# Altium footprint library RGT_TI.PcbLib: 1 footprints
Each footprint in its own frame and in the unit in brackets; x right, y up, seen from the top. Pads: shape width x height; smd on the part's side, far side on the other; paste and mask are expansions set on the pad; w line width, h text height; cw(c..) or ccw(c..) is an arc to the next point about the centre after c.
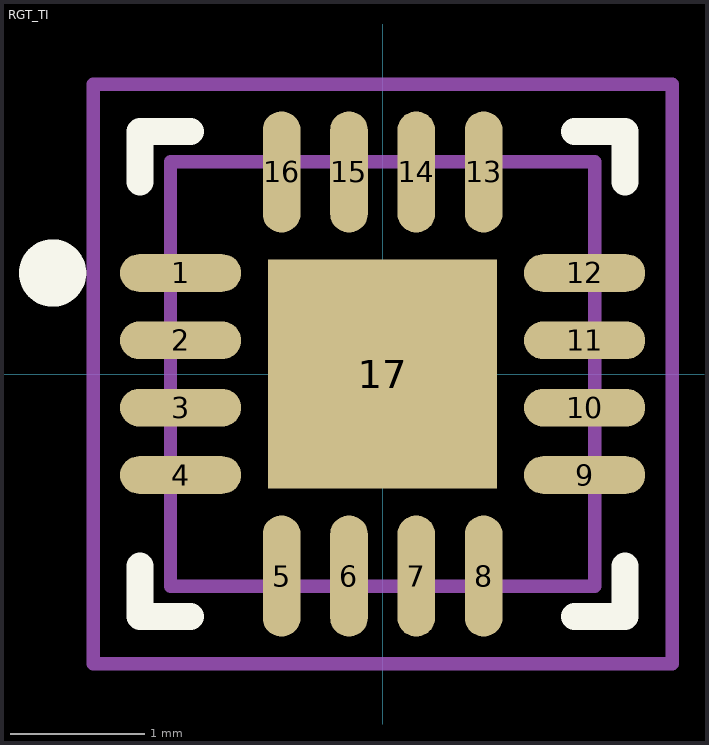
[diagram p0: the footprint, top view; thin cyan lines are the x and y axes]

## RGT_TI [mm] "QFN, 16-Leads, Body 3.2x3.2mm (max), Pitch 0.50mm, IPC Medium Density"
height 1
pads (17):
  oval 0.9x0.28 smd mask+0.07: 1(-1.5,0.75) 2(-1.5,0.25) 3(-1.5,-0.25) 4(-1.5,-0.75) 9(1.5,-0.75) 10(1.5,-0.25) 11(1.5,0.25) 12(1.5,0.75)
  oval 0.28x0.9 smd mask+0.07: 5(-0.75,-1.5) 6(-0.25,-1.5) 7(0.25,-1.5) 8(0.75,-1.5) 13(0.75,1.5) 14(0.25,1.5) 15(-0.25,1.5) 16(-0.75,1.5)
  rect 1.7x1.7 smd paste-1 mask+0.07: 17(0,0)
Top Overlay:
  circle w0.25: c-2.45,0.75 r0.125
  lines w0.2: -1.8,-1.425 -1.8,-1.8 -1.425,-1.8 ; -1.8,1.425 -1.8,1.8 -1.425,1.8 ; 1.425,-1.8 1.8,-1.8 1.8,-1.425 ; 1.425,1.8 1.8,1.8 1.8,1.425
Top Paste:
  region: -0.8,-0.1 -0.1,-0.1 -0.1,-0.8 -0.8,-0.8
  region: 0.1,-0.1 0.8,-0.1 0.8,-0.8 0.1,-0.8
  region: 0.1,0.8 0.8,0.8 0.8,0.1 0.1,0.1
  region: -0.8,0.8 -0.1,0.8 -0.1,0.1 -0.8,0.1
Mechanical 13:
  lines w0.1: -1.575,-1.575 -1.575,1.575 1.575,1.575 1.575,-1.575 -1.575,-1.575
Mechanical 15:
  lines w0.1: -0.5,0 0.5,0 ; 0,-0.5 0,0.5 ; -2.15,-2.15 -2.15,2.15 2.15,2.15 2.15,-2.15 -2.15,-2.15
3D body "rgt_ti.stp": height 0.9, standoff 0, extent -1.505,-1.505 1.497,1.497